# EAGLE library part 284697-E (library 284697-E)
PCB Mount Header, Vertical, Cable-to-Board, 4 Position, 1.27 mm [.05 in] Centerline, Fully Shrouded, Gold (Au), Surface Mount, ERNI MiniBridge Source: Datasheet <https://www.te.com/commerce/DocumentDelivery/DDEController?Action=showdoc&DocId=Customer Drawing284697-EFpdfEnglishENG_CD_284697-E_F.pdf284697-E>
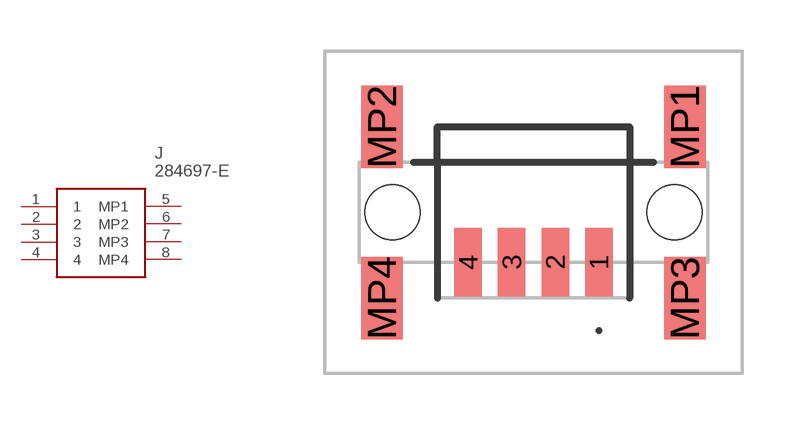
[diagram p0: symbol with the pads of 284697E; footprint 284697E]

Designator prefix J

## 284697-E (Description: PCB Mount Header, Vertical, Cable-to-Board, 4 Position, 1.27 mm [.05 in] Centerline, Fully Shrouded, Gold (Au), Surface Mount, ERNI MiniBridge; Height: 6.1mm; Manufacturer_Name: TE Connectivity; Manufacturer_Part_Number: 284697-E; Mouser_Part_Number: 305-284697; Mouser_Price-Stock: https://www.mouser.co.uk/ProductDetail/TE-Connectivity-ERNI/284697-E?qs=t7xnP681wgXF7Zyqlk%252B7cQ%3D%3D)  [284697E]
1  1
2  2
3  3
4  4
5  MP1
6  MP2
7  MP3
8  MP4

## Footprint 284697E (pad centres in mm)
284697-E-2
smd 0.8 x 2: 1 1.905,-1.45; 2 0.635,-1.45; 3 -0.635,-1.45; 4 -1.905,-1.45
smd 1.2 x 2.4: MP1 4.415,2.5; MP2 -4.415,2.5; MP3 4.415,-2.5; MP4 -4.415,-2.5
hole 1.6 at 4.115,0
hole 1.6 at -4.115,0